# Altium footprint library LT-DDB-12_V.PcbLib: 1 footprints
Each footprint in its own frame and in the unit in brackets; x right, y up, seen from the top. Pads: shape width x height; smd on the part's side, far side on the other; paste and mask are expansions set on the pad; w line width, h text height; cw(c..) or ccw(c..) is an arc to the next point about the centre after c.
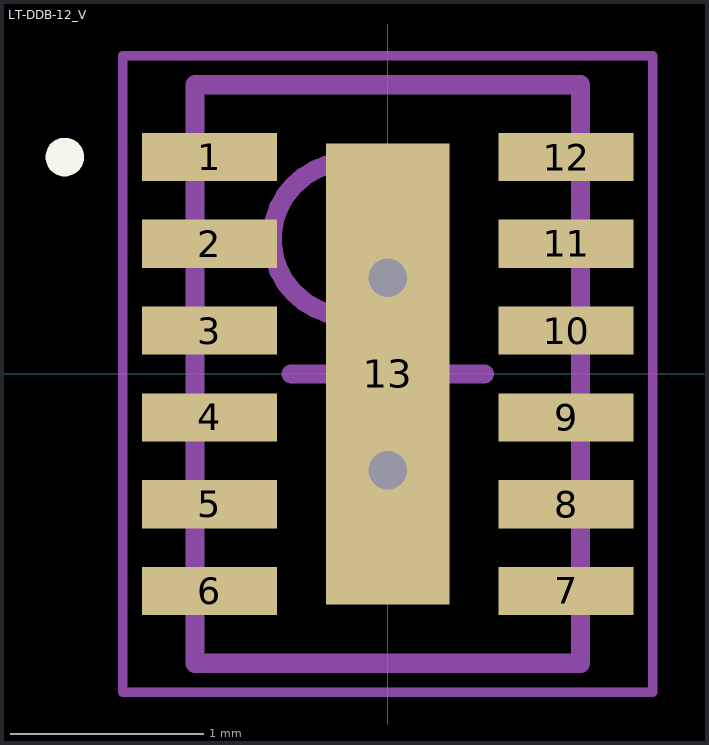
[diagram p0: the footprint, top view; thin cyan lines are the x and y axes]

## LT-DDB-12_V [mm] "SON, 12-Leads, Body 3x2mm, Pitch 0.45mm, Thermal Pad 2.39x0.64mm"
height 0.8
pads (13):
  rect 0.7x0.25 smd mask+0.102: 1(-0.925,1.125) 2(-0.925,0.675) 3(-0.925,0.225) 4(-0.925,-0.225) 5(-0.925,-0.675) 6(-0.925,-1.125) 7(0.925,-1.125) 8(0.925,-0.675) 9(0.925,-0.225) 10(0.925,0.225) 11(0.925,0.675) 12(0.925,1.125)
  rect 0.64x2.39 smd mask+0.102: 13(0,0)
via 0,0.5 diameter 0.5 hole 0.2
via 0,-0.5 diameter 0.5 hole 0.2
Top Overlay:
  circle w0.1: c-1.675,1.125 r0.05
Mechanical 13:
  circle w0.1: c-0.2,0.7 r0.4
  lines w0.1: -1,-1.5 -1,1.5 1,1.5 1,-1.5 -1,-1.5
Mechanical 15:
  lines w0.05: -1.375,-1.65 -1.375,1.65 1.375,1.65 1.375,-1.65 -1.375,-1.65
  lines w0.1: -0.5,0 0.5,0 ; 0,-0.5 0,0.5
3D body: height 0.8, standoff 0, extent -1,-1.5 1,1.5